# Altium footprint library PcbLib.PcbLib: 3 footprints
Each footprint in its own frame and in the unit in brackets; x right, y up, seen from the top. Pads: shape width x height; smd on the part's side, far side on the other; paste and mask are expansions set on the pad; w line width, h text height; cw(c..) or ccw(c..) is an arc to the next point about the centre after c.
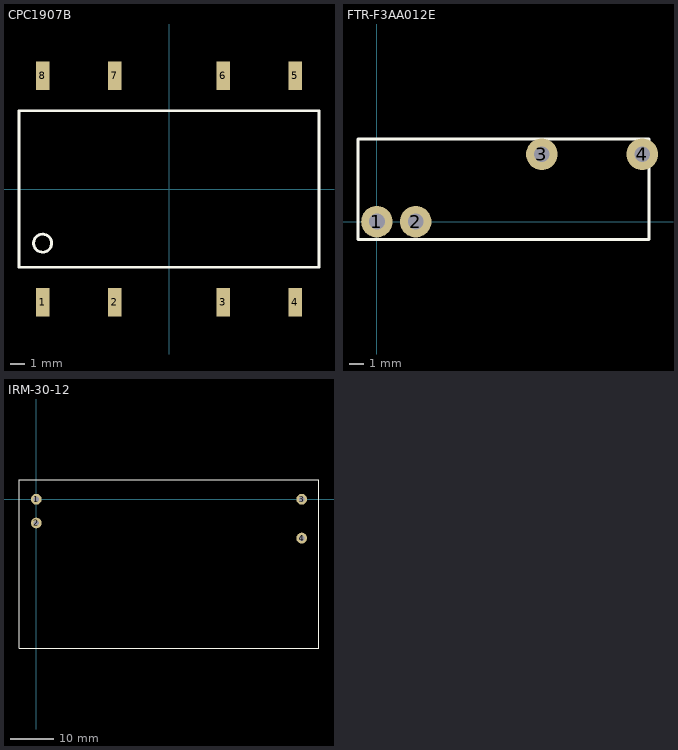
[diagram p0: the footprints below, top view; thin cyan lines are the x and y axes]

## CPC1907B [mm]
pads (8):
  rect 0.95x2 smd: 1(-8.89,-7.95) 2(-3.81,-7.95) 3(3.81,-7.95) 4(8.89,-7.95) 5(8.89,7.95) 6(3.81,7.95) 7(-3.81,7.95) 8(-8.89,7.95)
Top Overlay:
  circle w0.2: c-8.89,-3.81 r0.635
  lines w0.2: -10.55,-5.5 10.55,-5.5 10.55,5.5 -10.55,5.5 -10.55,-5.5

## FTR-F3AA012E [mm]
pads (4):
  round 2.2 hole 1.1: 1(0,0) 2(2.7,0) 3(11.5,4.7) 4(18.5,4.7)
Top Overlay:
  lines w0.2: -1.32,-1.25 18.98,-1.25 18.98,5.75 -1.32,5.75 -1.32,-1.25
3D body: height 15, standoff 0, extent -1.32,-1.25 18.98,5.75

## IRM-30-12 [mm]
pads (4):
  round 2.5 hole 1.25: 1(0,0) 2(0,-5.5) 3(61.5,0) 4(61.5,-9)
Top Overlay:
  lines w0.2: -4,-34.5 -4,4.5 65.5,4.5 65.5,-34.5 -4,-34.5
3D body: height 24, standoff 0, extent -4,-34.5 65.5,4.5